# Altium integrated library NORA-B106-00B.IntLib: 1 symbol
Pins are listed as number, name and electrical type; pins without a type are passive.

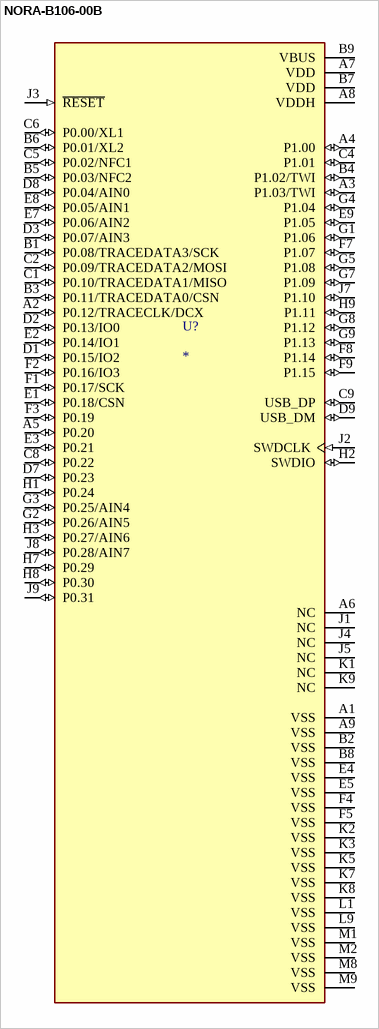
[diagram p0: symbol NORA-B106-00B]

## NORA-B106-00B
designator U?
802.15.4, Bluetooth Bluetooth v5.2, Thread, ZigbeeÂ® Transceiver Module 2.4GHz Antenna Not Included Surface Mount; MF: U-Blox; MP: NORA-B106-00B; SnapEDA_Link: https://www.snapeda.com/parts/NORA-B106-00B/u-blox/view-part/?ref=snap; Package: None; Value: *; Check_prices: https://www.snapeda.com/parts/NORA-B106-00B/u-blox/view-part/?ref=eda
footprint XCVR_NORA-B106-00B
pins: A1 VSS (power), A2 P0.12/TRACECLK/DCX (io), A3 P1.03/TWI (io), A4 P1.00 (io), A5 P0.20 (io), A6 NC, A7 VDD (power), A8 VDDH (power), A9 VSS (power), B1 P0.08/TRACEDATA3/SCK (io), B2 VSS (power), B3 P0.11/TRACEDATA0/CSN (io), B4 P1.02/TWI (io), B5 P0.03/NFC2 (io), B6 P0.01/XL2 (io), B7 VDD (power), B8 VSS (power), B9 VBUS (power), C1 P0.10/TRACEDATA1/MISO (io), C2 P0.09/TRACEDATA2/MOSI (io), C4 P1.01 (io), C5 P0.02/NFC1 (io), C6 P0.00/XL1 (io), C8 P0.22 (io), C9 USB_DP (io), D1 P0.15/IO2 (io), D2 P0.13/IO0 (io), D3 P0.07/AIN3 (io), D7 P0.23 (io), D8 P0.04/AIN0 (io), D9 USB_DM (io), E1 P0.18/CSN (io), E2 P0.14/IO1 (io), E3 P0.21 (io), E4 VSS (power), E5 VSS (power), E7 P0.06/AIN2 (io), E8 P0.05/AIN1 (io), E9 P1.05 (io), F1 P0.17/SCK (io), F2 P0.16/IO3 (io), F3 P0.19 (io), F4 VSS (power), F5 VSS (power), F7 P1.07 (io), F8 P1.14 (io), F9 P1.15 (io), G1 P1.06 (io), G2 P0.26/AIN5 (io), G3 P0.25/AIN4 (io), G4 P1.04 (io), G5 P1.08 (io), G7 P1.09 (io), G8 P1.12 (io), G9 P1.13 (io), H1 P0.24 (io), H2 SWDIO (io), H3 P0.27/AIN6 (io), H7 P0.29 (io), H8 P0.30 (io), H9 P1.11 (io), J1 NC, J2 SWDCLK (in), J3 ~{RESET} (in), J4 NC, J5 NC, J7 P1.10 (io), J8 P0.28/AIN7 (io), J9 P0.31 (io), K1 NC, K2 VSS (power), K3 VSS (power), K5 VSS (power), K7 VSS (power), K8 VSS (power), K9 NC, L1 VSS (power), L9 VSS (power), M1 VSS (power), M2 VSS (power), M8 VSS (power), M9 VSS (power)